# Altium footprint library SMT1206-LED.PcbLib: 1 footprints
Each footprint in its own frame and in the unit in brackets; x right, y up, seen from the top. Pads: shape width x height; smd on the part's side, far side on the other; paste and mask are expansions set on the pad; w line width, h text height; cw(c..) or ccw(c..) is an arc to the next point about the centre after c.
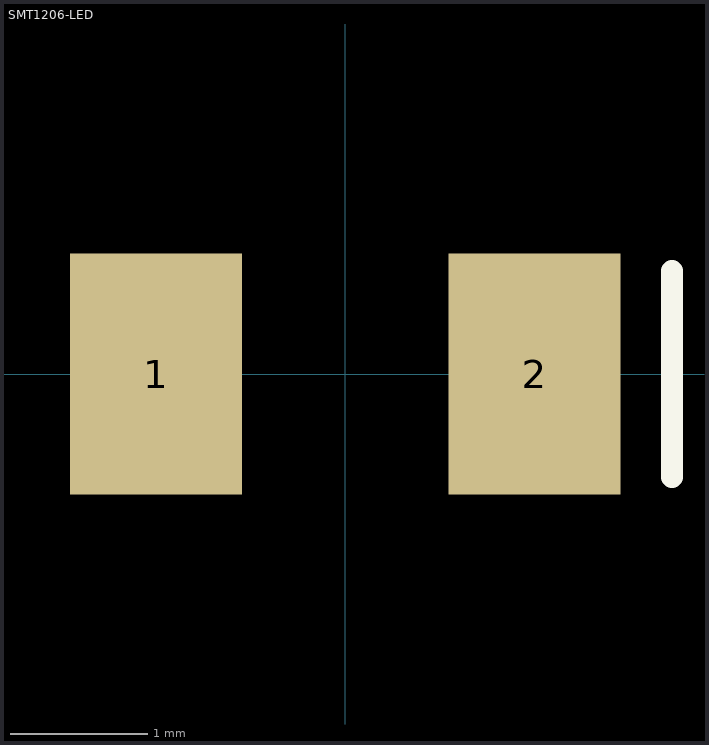
[diagram p0: the footprint, top view; thin cyan lines are the x and y axes]

## SMT1206-LED [mm]
height 2.5
pads (2):
  rect 1.25x1.75 smd: 1(-1.375,0) 2(1.375,0)
Top Overlay:
  lines w0.16: 2.375,-0.75 2.375,0.75
3D body "APTD3216.STEP": height 1.78, standoff -0.03, extent -1.6,-0.8 1.6,0.8